# EAGLE library part MMA8450Q (library 0SBLib)
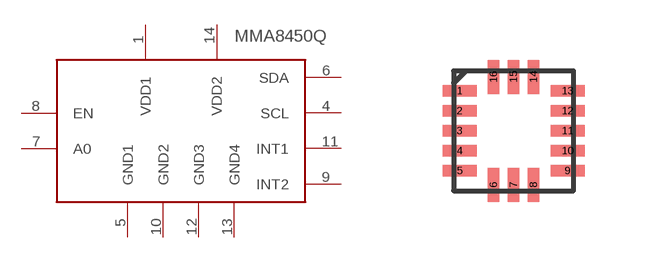
[diagram p9: symbol with the pads of QFN16-3X3_5_3; footprint QFN16-3X3_5_3]

Designator prefix -

## MMA8450Q  [QFN16-3X3_5_3]
1  VDD1
4  SCL
5  GND1
6  SDA
7  A0
8  EN
9  INT2
10  GND2
11  INT1
12  GND3
13  GND4
14  VDD2

## Footprint QFN16-3X3_5_3 (pad centres in mm)
smd 0.85 x 0.28: 1 -1.35,1; 2 -1.35,0.5; 3 -1.35,0; 4 -1.35,-0.5; 5 -1.35,-1; 9 1.35,-1; 10 1.35,-0.5; 11 1.35,0; 12 1.35,0.5; 13 1.35,1
smd 0.28 x 0.85: 6 -0.5,-1.35; 7 0,-1.35; 8 0.5,-1.35; 14 0.5,1.35; 15 0,1.35; 16 -0.5,1.35